# Altium footprint library LH_Traffic_Lignt_V2.0.PcbLib: 49 footprints (part 1 of 4)
Each footprint in its own frame and in the unit in brackets; x right, y up, seen from the top. Pads: shape width x height; smd on the part's side, far side on the other; paste and mask are expansions set on the pad; w line width, h text height; cw(c..) or ccw(c..) is an arc to the next point about the centre after c.
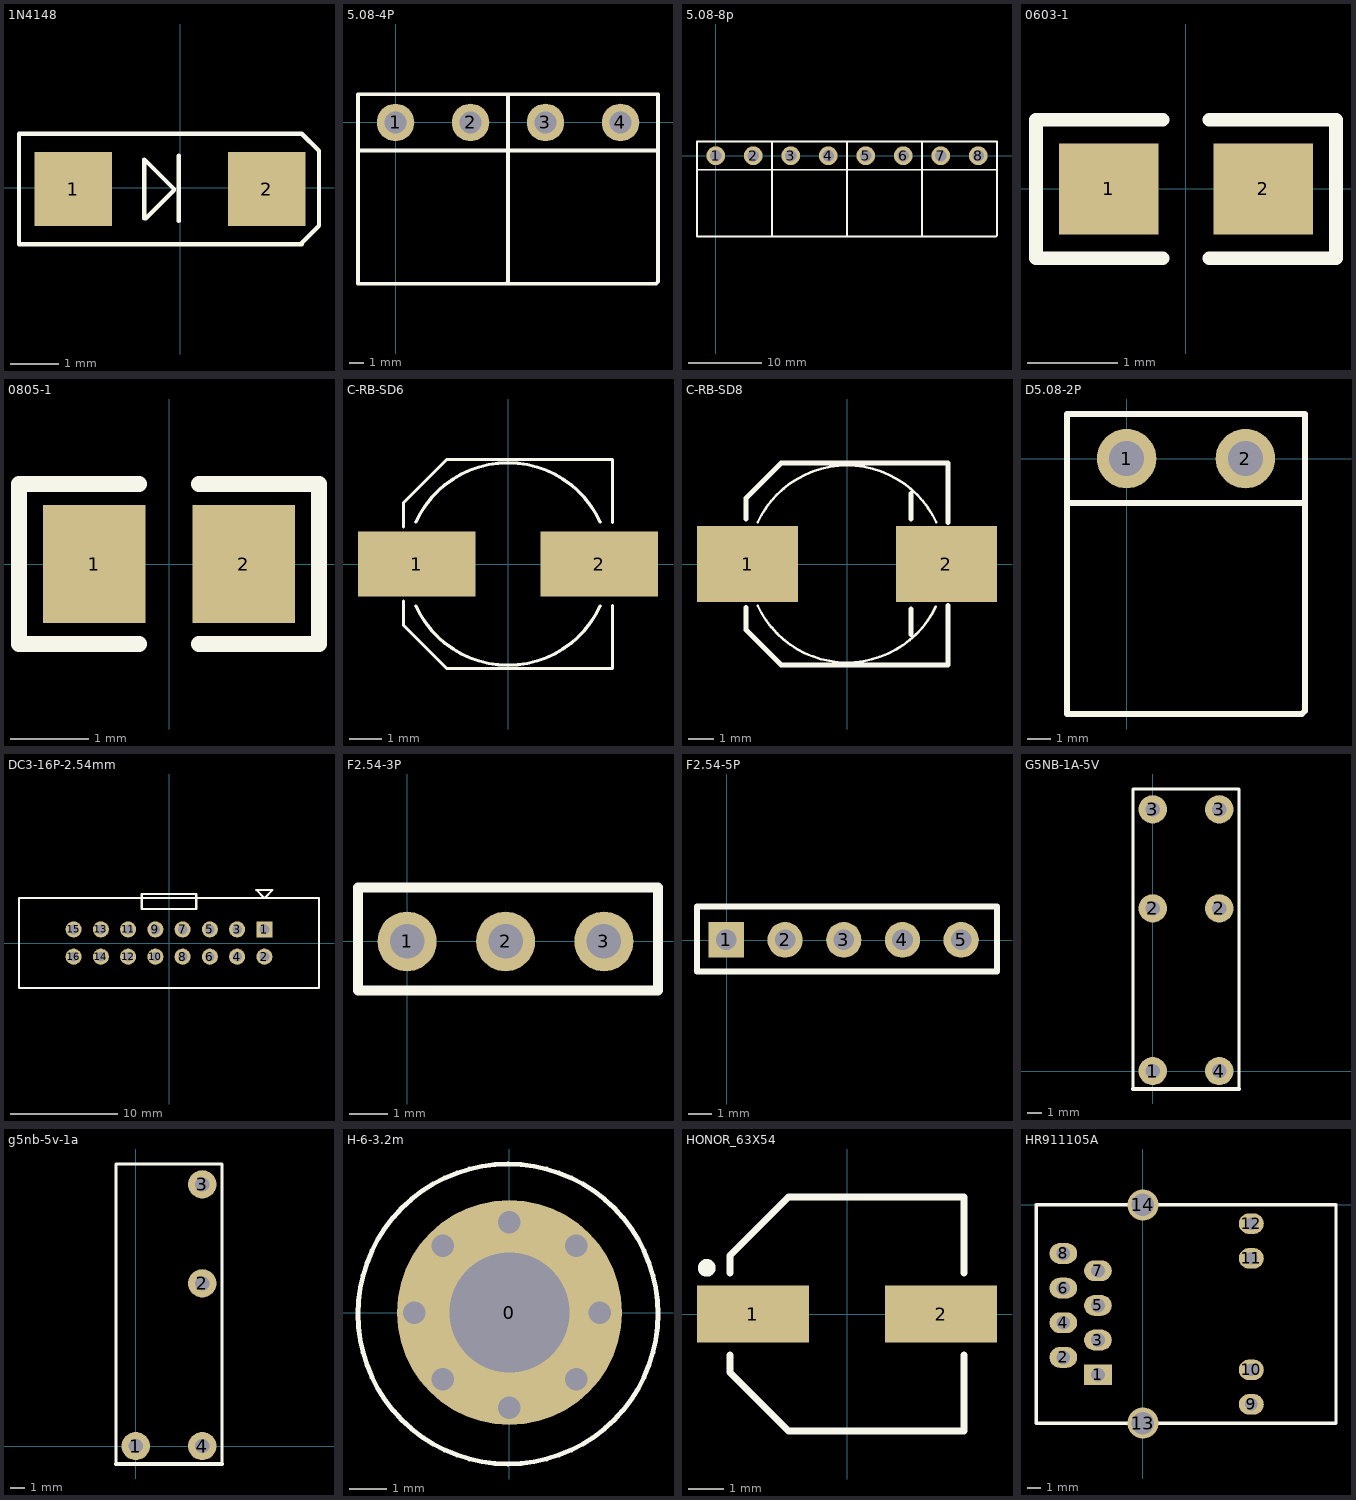
[diagram p0: the footprints below, top view; thin cyan lines are the x and y axes]

## 1N4148 [mil]
height 153.54
pads (2):
  rect 62.99x60 smd: 1(-86.89,-1) 2(70.59,-1)
Top Overlay:
  lines w3.6: -29,-25 -29,23 -5,-1 ; -28,-25 -5,-2 ; -1,-27 -1,26 ; 98,-46 113,-31 113,30 99,44 -131,44 -131,-46 -2,-46 99,-46

## 5.08-4P [mm]
pads (4):
  round 2.54 hole 1.5: 1(0,0) 2(5.08,0) 3(10.16,0) 4(15.24,0)
Top Overlay:
  lines w0.254: -2.54,-1.905 7.62,-1.905 ; -2.54,-1.905 -2.54,1.905 7.62,1.905 ; -2.54,-1.905 -2.54,-10.922 5.08,-10.922 7.493,-10.922 7.62,-10.795 7.62,-1.905 ; 7.62,-1.905 17.78,-1.905 ; 7.62,-1.905 7.62,1.905 ; 7.62,-1.905 7.62,-10.922 15.24,-10.922 17.653,-10.922 17.78,-10.795 17.78,-1.905 ; 7.62,-1.905 7.62,1.905 ; 7.62,1.905 17.78,1.905 17.78,-1.905

## 5.08-8p [mm]
height 3.9
pads (8):
  round 2.54 hole 1.5: 1(0,0) 2(5.08,0) 3(10.16,0) 4(15.24,0) 5(20.32,0) 6(25.4,0) 7(30.48,0) 8(35.56,0)
Top Overlay:
  lines w0.254: -2.54,-1.905 -2.54,-10.922 5.08,-10.922 7.493,-10.922 7.62,-10.795 7.62,-1.905 ; -2.54,-1.905 -2.54,1.905 7.62,1.905 ; -2.54,-1.905 7.62,-1.905 ; 7.62,-1.905 7.62,1.905 ; 7.62,-1.905 7.62,-10.922 15.24,-10.922 17.653,-10.922 17.78,-10.795 17.78,-1.905 ; 7.62,-1.905 7.62,1.905 ; 7.62,-1.905 17.78,-1.905 ; 7.62,1.905 17.78,1.905 ; 17.78,-1.905 17.78,1.905 ; 17.78,-1.905 17.78,-10.922 25.4,-10.922 27.813,-10.922 27.94,-10.795 27.94,-1.905 ; 17.78,-1.905 17.78,1.905 ; 17.78,-1.905 27.94,-1.905 ; 17.78,1.905 27.94,1.905 ; 27.94,-1.905 27.94,1.905 ; 27.94,-1.905 27.94,-10.922 35.56,-10.922 37.973,-10.922 38.1,-10.795 38.1,-1.905 ; 27.94,-1.905 27.94,1.905 ; 27.94,-1.905 38.1,-1.905 ; 27.94,1.905 38.1,1.905 38.1,-1.905

## 0603-1 [mm] "0603带丝印"
height 0.6
pads (2):
  rect 1.1x1 smd: 1(-0.85,0) 2(0.85,0)
Top Overlay:
  lines w0.15: -0.254,-0.762 -1.651,-0.762 -1.651,0.762 -0.254,0.762 ; 0.254,-0.762 1.651,-0.762 1.651,0.762 0.254,0.762
3D body "User Library-0603 SMD Resistor.STEP": height 0.3, standoff 0, extent -0.8,-0.4 0.8,0.4

## 0805-1 [mm] "0805带丝印"
height 1.1
pads (2):
  rect 1.3x1.5 smd: 1(-0.95,0) 2(0.95,0)
Top Overlay:
  lines w0.2: -0.381,-1.016 -1.905,-1.016 -1.905,1.016 -0.381,1.016 ; 0.381,-1.016 1.905,-1.016 1.905,1.016 0.381,1.016
3D body "0805R.STEP": height 0.5, standoff 0, extent -1,-0.625 1,0.625

## C-RB-SD6 [mm] "贴片铝电解"
height 7
pads (2):
  rect 3.6x2 smd: 1(-2.794,0) 2(2.794,0)
Top Overlay:
  lines w0.1: -3.2,-1.143 -3.2,-1.88 -1.88,-3.2 3.2,-3.2 3.2,-1.27 ; -3.2,1.143 -3.2,1.88 -1.88,3.2 3.2,3.2 3.2,1.27 ; -2.822,-1.283 ccw(c0,0) 2.822,-1.283 ; -2.822,1.283 cw(c0,0) 2.822,1.283

## C-RB-SD8 [mm] "贴片铝电解"
height 10.2
pads (2):
  rect 4x3 smd: 1(-3.937,0) 2(3.937,0)
Top Overlay:
  lines w0.1: -3.539,-1.643 ccw(c0,0) 3.516,-1.693 ; -3.539,1.643 cw(c0,0) 3.539,1.643
  lines w0.2: -4,-1.714 -4,-2.604 -2.604,-4 4,-4 4,-1.651 ; -4,1.778 -4,2.604 -2.604,4 4,4 4,1.651 ; 2.54,-2.794 2.54,-1.778 ; 2.54,1.778 2.54,2.794
3D body: height 8, standoff 0, extent -3.953,-3.992 4.015,3.992
3D body: height 0.6, standoff 0, extent -3.937,-3.937 3.937,3.937

## D5.08-2P [mm]
height 3.9
pads (2):
  round 2.54 hole 1.5: 1(0,0) 2(5.08,0)
Top Overlay:
  lines w0.254: -2.54,-1.905 7.62,-1.905 ; -2.54,-1.905 -2.54,1.905 7.62,1.905 7.62,-1.905 ; -2.54,-1.905 -2.54,-10.922 5.08,-10.922 7.493,-10.922 7.62,-10.795 7.62,-1.905

## DC3-16P-2.54mm [mm] "简易牛角座直"
height 7
pads (16):
  rect 1.5x1.5 hole 0.9: 1(8.89,1.27)
  round 1.5 hole 0.9: 2(8.89,-1.27) 3(6.35,1.27) 4(6.35,-1.27) 5(3.81,1.27) 6(3.81,-1.27) 7(1.27,1.27) 8(1.27,-1.27) 9(-1.27,1.27) 10(-1.27,-1.27) 11(-3.81,1.27) 12(-3.81,-1.27) 13(-6.35,1.27) 14(-6.35,-1.27) 15(-8.89,1.27) 16(-8.89,-1.27)
Top Overlay:
  lines w0.2: -13.97,-4.191 -13.97,4.191 13.97,4.191 13.97,-4.191 -13.97,-4.191 ; -2.54,3.175 2.54,3.175 2.54,4.191 2.54,4.572 -2.54,4.572 -2.54,4.191 -2.54,3.175 ; 8.128,4.953 8.89,4.191 9.652,4.953 8.128,4.953

## F2.54-3P [mil]
height 153.54
pads (3):
  oval 60x60.63 hole 35: 1(0,0) 2(100,0) 3(200,0)
Top Overlay:
  lines w7.8: 48,-49 49,-50
  lines w10: -50,-50 255,-50 255,55 -50,55 -50,-50

## F2.54-5P [mil]
height 153.54
pads (5):
  rect 60x60.63 hole 35: 1(-1,1)
  oval 60x60.63 hole 35: 2(99,1) 3(199,1) 4(299,1) 5(399,1)
Top Overlay:
  lines w10: -51,-53 -51,58 460,58 460,-53 -51,-53

## G5NB-1A-5V [mm]
pads (6):
  round 2 hole 1: 1(0,0) 2(0,11.5) 2(4.7,11.5) 3(0,18.5) 3(4.7,18.5) 4(4.7,0)
Top Overlay:
  lines w0.2: -1.397,-1.27 -1.397,19.939 6.096,19.939 6.096,-1.27
  lines w0.254: -1.397,-1.27 6.096,-1.27
3D body: height 12, standoff 0, extent -1.397,-1.27 6.096,19.939

## g5nb-5v-1a [mm]
pads (4):
  round 2 hole 1: 1(0,0) 2(4.7,11.5) 3(4.7,18.5) 4(4.7,0)
Top Overlay:
  lines w0.2: -1.397,-1.27 -1.397,19.939 6.096,19.939 6.096,-1.27
  lines w0.254: -1.397,-1.27 6.096,-1.27
3D body: height 12, standoff 0, extent -1.397,-1.27 6.096,19.939

## H-6-3.2m [mm]
height 3.9
pads (1):
  round 6 hole 3.2: 0(0,0)
via -1.778,1.778 diameter 0.8 hole 0.6
via -2.54,0 diameter 0.8 hole 0.6
via -1.778,-1.778 diameter 0.8 hole 0.6
via 0,-2.54 diameter 0.8 hole 0.6
via 1.778,-1.778 diameter 0.8 hole 0.6
via 2.413,0 diameter 0.8 hole 0.6
via 1.778,1.778 diameter 0.8 hole 0.6
via 0,2.413 diameter 0.8 hole 0.6
Top Overlay:
  circle w0.127: c-0.04,-0.04 r4

## HONOR_63X54 [mm]
height 3.9
pads (2):
  rect 3.15x1.6 smd: 1(-2.65,0) 2(2.65,0)
Top Overlay:
  circle w0.25: c-3.95,1.3 r0.125
  lines w0.2: -3.3,-1.15 -3.3,-1.65 -1.65,-3.3 3.3,-3.3 3.3,-1.15 ; -3.3,1.15 -3.3,1.65 -1.65,3.3 3.3,3.3 3.3,1.15

## HR911105A [mil]
height 153.54
pads (14):
  rect 80x60 hole 40: 1(-130,-490)
  oval 80x60 hole 40: 2(-230,-440) 3(-130,-390) 4(-230,-340) 5(-130,-290) 6(-230,-240) 7(-130,-190) 8(-230,-140)
  oval 72x60 hole 36: 9(312.91,-575.63) 10(312.91,-476) 11(312.91,-154.13) 12(312.91,-54)
  round 90 hole 65: 13(-0.08,-629.76) 14(-0.08,0.16)
Top Overlay:
  lines w10: -308.74,-630 -308.5,-629.76 ; -308.74,0 -308.58,0.16 ; -308.58,0.16 -0.08,0.16 557.24,0.16 557.4,0 557.4,-630 557.17,-629.76 -0.08,-629.76 -308.5,-629.76 ; -308.58,0.16 -308.58,-629.69 -308.5,-629.76
Multi-Layer:
  circle w5: c130,-540 r70.8
  circle w5: c130,-90 r70.8